# EAGLE library part RFµ-328-SMD (library Ciseco Footprints)
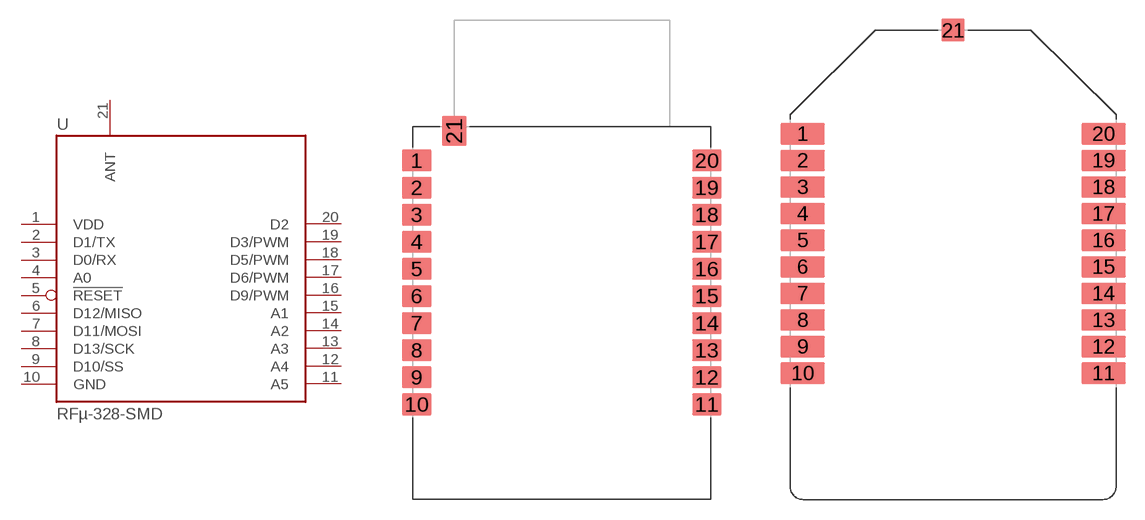
[diagram p3: symbol with the pads of RFµ-328-LANDING; footprints RFµ-328-LANDING, RFµ-LANDING-V2.0]

Designator prefix U

## RFµ-328-SMD  [RFµ-328-LANDING]
1  VDD  pwr
2  D1/TX  out
3  D0/RX  in
4  A0
5  !RESET  in
6  D12/MISO
7  D11/MOSI
8  D13/SCK
9  D10/SS
10  GND  pwr
11  A5
12  A4  out
13  A3
14  A2
15  A1
16  D9/PWM  in
17  D6/PWM
18  D5/PWM
19  D3/PWM
20  D2
21  ANT  out

## RFµ-328-SMD-V2.0  [RFµ-LANDING-V2.0]
Pads as for RFµ-328-LANDING

## Footprint RFµ-328-LANDING (pad centres in mm)
smd 2.2 x 1.6: 1 -10.7,20; 2 -10.7,18; 3 -10.7,16; 4 -10.7,14; 5 -10.7,12; 6 -10.7,10; 7 -10.7,8; 8 -10.7,6; 9 -10.7,4; 10 -10.7,2; 11 10.7,2; 12 10.7,4; 13 10.7,6; 14 10.7,8; 15 10.7,10; 16 10.7,12; 17 10.7,14; 18 10.7,16; 19 10.7,18; 20 10.7,20
smd 1.8 x 2.2: 21 -7.93,22.2

## Footprint RFµ-LANDING-V2.0 (pad centres in mm)
smd 3.35 x 1.6: 1 -11.3,20; 2 -11.3,18; 3 -11.3,16; 4 -11.3,14; 5 -11.3,12; 6 -11.3,10; 7 -11.3,8; 8 -11.3,6; 9 -11.3,4; 10 -11.3,2; 11 11.3,2; 12 11.3,4; 13 11.3,6; 14 11.3,8; 15 11.3,10; 16 11.3,12; 17 11.3,14; 18 11.3,16; 19 11.3,18; 20 11.3,20
smd 1.7 x 1.7: 21 0,27.8